# Altium schematic symbol library ESP32-C3FH4.SchLib: 1 symbol
Pins are listed as number, name and electrical type; pins without a type are passive.

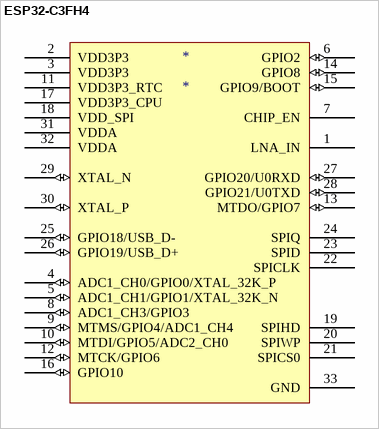
[diagram p0: symbol ESP32-C3FH4]

## ESP32-C3FH4
designator *
footprint ESP32-C3FH4 (QFN, 32-Leads, Body 5,00x5,00mm, Pitch 0,50mm, Thermal Pad 3,70x3,70mm, IPC Medium Density)
pins: 1 LNA_IN, 2 VDD3P3 (power), 3 VDD3P3 (power), 4 ADC1_CH0/GPIO0/XTAL_32K_P (io), 5 ADC1_CH1/GPIO1/XTAL_32K_N (io), 6 GPIO2 (io), 7 CHIP_EN, 8 ADC1_CH3/GPIO3 (io), 9 MTMS/GPIO4/ADC1_CH4 (io), 10 MTDI/GPIO5/ADC2_CH0 (io), 11 VDD3P3_RTC (power), 12 MTCK/GPIO6 (io), 13 MTDO/GPIO7 (io), 14 GPIO8 (io), 15 GPIO9/BOOT (io), 16 GPIO10 (io), 17 VDD3P3_CPU (power), 18 VDD_SPI (power), 19 SPIHD, 20 SPIWP, 21 SPICS0, 22 SPICLK, 23 SPID, 24 SPIQ, 25 GPIO18/USB_D- (io), 26 GPIO19/USB_D+ (io), 27 GPIO20/U0RXD (io), 28 GPIO21/U0TXD (io), 29 XTAL_N (io), 30 XTAL_P (io), 31 VDDA (power), 32 VDDA (power), 33 GND (power)